# EAGLE library part JW24A10L (library custom)
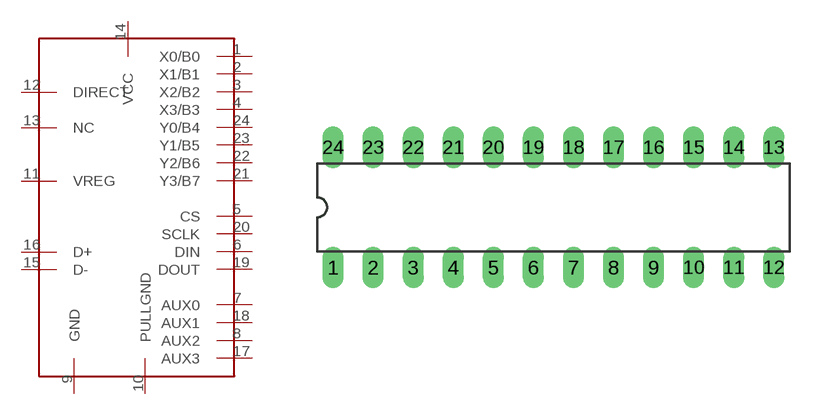
[diagram p4: symbol with the pads of DIL24-3; footprint DIL24-3]

Designator prefix -

## JW24A10L  [DIL24-3]
1  X0/B0
2  X1/B1
3  X2/B2
4  X3/B3
5  CS
6  DIN
7  AUX0  sup
8  AUX2  sup
9  GND  pwr
10  PULLGND  sup
11  VREG
12  DIRECT
13  NC
14  VCC  pwr
15  D-
16  D+
17  AUX3  sup
18  AUX1  sup
19  DOUT
20  SCLK
21  Y3/B7
22  Y2/B6
23  Y1/B5
24  Y0/B4

## Footprint DIL24-3 (pad centres in mm)
drill 0.813 long: 1 -13.97,-3.81; 2 -11.43,-3.81; 3 -8.89,-3.81; 4 -6.35,-3.81; 5 -3.81,-3.81; 6 -1.27,-3.81; 7 1.27,-3.81; 8 3.81,-3.81; 9 6.35,-3.81; 10 8.89,-3.81; 11 11.43,-3.81; 12 13.97,-3.81; 13 13.97,3.81; 14 11.43,3.81; 15 8.89,3.81; 16 6.35,3.81; 17 3.81,3.81; 18 1.27,3.81; 19 -1.27,3.81; 20 -3.81,3.81; 21 -6.35,3.81; 22 -8.89,3.81; 23 -11.43,3.81; 24 -13.97,3.81